# Altium schematic symbol library CT.SCHLIB: 13 symbols
Pins are listed as number, name and electrical type; pins without a type are passive.

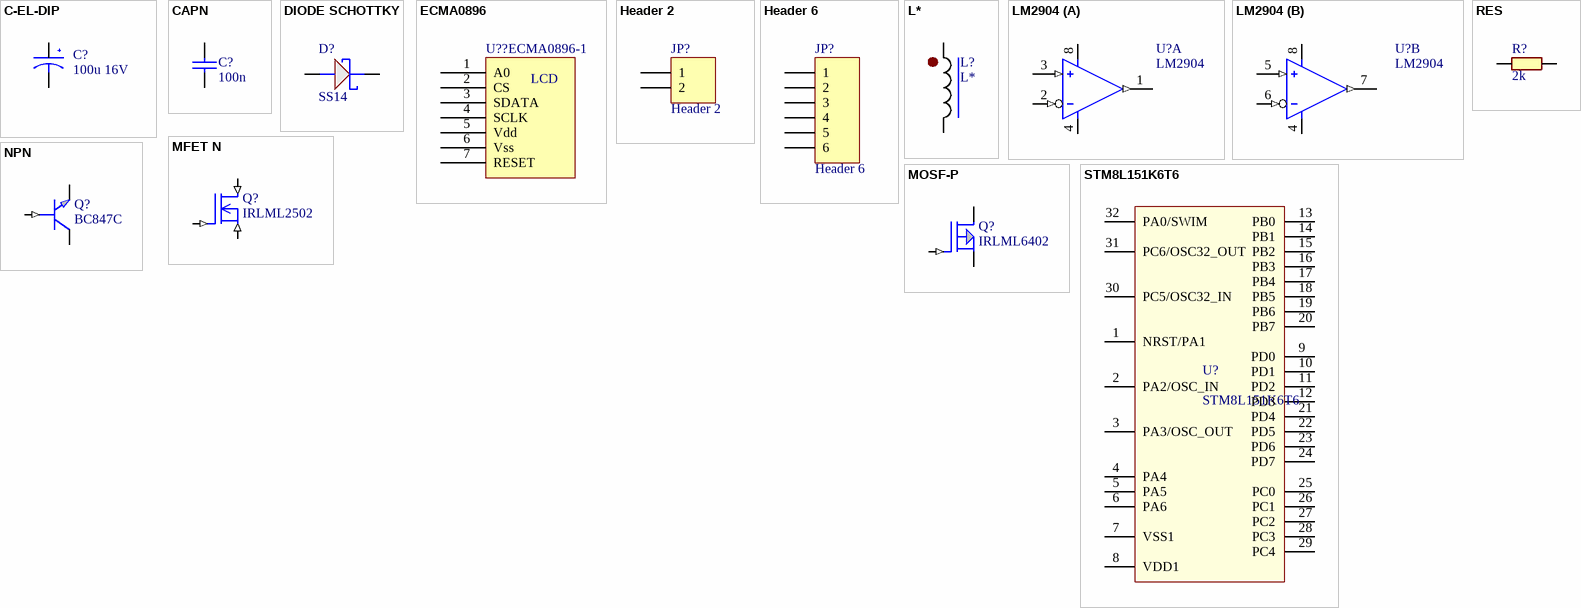
[diagram p0: symbols C-EL-DIP to STM8L151K6T6]

## C-EL-DIP
designator C?, comment 100u 16V
Производитель: *; Точность: *; Напряжение: *; Тип диэлектрика: *
footprint EXR-6.3X11
footprint EXR-10X12.5
footprint ECR-5X11
footprint ECR-6X11
footprint CAPPRD200W50D600H1250 (Capacitor, Polarized, Radial (Electrolytic); 2.00 mm C X 6.00 mm Dia X 12.50 mm H body)
pins: 1 -, 2 +

## CAPN
designator C?, comment 100n
footprint C-0603
footprint C-0805
footprint C-1206
footprint CAPC1608X08N (Chip Capacitor, 2-Leads, Body 1,60x0,80mm, IPC Medium Density)
pins: 1, 2

## DIODE SCHOTTKY
designator D?, comment SS14
Text Field1: 30; Text Field2: 20
footprint SOD-106A
footprint SOD-106B
footprint DIOM521X260X241L114X145N (Diode, Molded Body; 4.315 mm L X 2.605 mm W X 2.41 mm H body)
pins: A, K

## ECMA0896
designator U??, comment ECMA0896-1
footprint ECMA0896
pins: 1 A0, 2 CS, 3 SDATA, 4 SCLK, 5 Vdd, 6 Vss, 7 RESET
text: LCD

## Header 2
designator JP?
Header, 2-Pin; LatestRevisionDate: 17-Jul-2002; LatestRevisionNote: Re-released for DXP Platform.; Publisher: Altium Limited
footprint HDR1X2 (Connector; Header; 2 Position)
signal-integrity model Connector
footprint HDRV2W64P254_2X1_508X254H854 (Header, Vertical, 2.54 mm pitch; 0.64 mm lead width, 2 pins, 1 row, 2 pins per row, 5.08 mm L X 2.54 mm W X 8.54 mm H body)
pins: 1, 2

## Header 6
designator JP?
Header, 6-Pin; LatestRevisionDate: 17-Jul-2002; LatestRevisionNote: Re-released for DXP Platform.; Publisher: Altium Limited
footprint HDR1X6 (Connector; Header; 6 Position)
signal-integrity model Connector
footprint HDRV6W70P254_6X1_1397X254H754 (Header, Vertical, 2.54 mm pitch; 0.70 mm lead width, 6 pins, 1 row, 6 pins per row, 13.97 mm L X 2.54 mm W X 7.54 mm H body)
pins: 1, 2, 3, 4, 5, 6

## L*
designator L?
footprint SND-0705
footprint SND-1006
footprint T5026B-630K
pins: 1, 2

## LM2904
designator U?
2 Operation amplifier; Производитель: *; Допустимая замена: *; Цена: *; PDF файл: *; Температурный диапазон: *
footprint SO8-(SOT-96-1)
footprint SOIC127P600X175-8N (SOIC, 8-Leads, Body 4,90x3,90mm, Pitch 1,27mm, IPC Medium Density)
part A pins: 1 OUT (out), 2 -IN (in), 3 +IN (in), 4 V- (power), 8 V+ (power)
part B pins: 4 V-, 5 +IN (in), 6 -IN (in), 7 OUT (out), 8 V+

## MFET N
designator Q?, comment IRLML2502
footprint SOT95P245X110-3N (SOT23, 3-Leads, Body 2,90x2,45mm, Pitch 0,95mm, IPC Medium Density)
pins: 1 G (in), 2 D (in), 3 S (in)

## MOSF-P
designator Q?, comment IRLML6402
footprint SOT-23
footprint SOT-323
footprint SOT-428-(D-PAK)
footprint SOT-89
footprint SOT95P245X110-3N (SOT23, 3-Leads, Body 2,90x2,45mm, Pitch 0,95mm, IPC Medium Density)
pins: 1 GATE (in), 2 DRAIN, 3 SOURCE

## NPN
designator Q?, comment BC847C
footprint SOT-23
footprint SOT-323
footprint SOT-428-(D-PAK)
footprint SOT-89
footprint SOT95P245X110-3N (SOT23, 3-Leads, Body 2,90x2,45mm, Pitch 0,95mm, IPC Medium Density)
pins: 1 BASE (in), 2 COLLECTOR, 3 EMITTER

## RES
designator R?, comment 2k
footprint R-0603
footprint R-0805
footprint R-1206
footprint RESC1005X05N (Chip Resistor, 2-Leads, Body 1,05x0,54mm, IPC Medium Density)
footprint RESC1608X06N (Chip Resistor, 2-Leads, Body 1,60x0,82mm, IPC Medium Density)
footprint RESC2012X07N (Chip Resistor, 2-Leads, Body 2,00x1,25mm, IPC Medium Density)
footprint RESC3216X07N (Chip Resistor, 2-Leads, Body 3,20x1,60mm, IPC Medium Density)
footprint RESC3225X07N (Chip Resistor, 2-Leads, Body 3,20x2,49mm, IPC Medium Density)
pins: 1, 2

## STM8L151K6T6
designator U?
footprint TQFP80P900X900X160-32N (TQFP, 32-Leads, Body 7,00x7,00mm, Pitch 0,80mm, IPC Medium Density)
pins: 1 NRST/PA1, 2 PA2/OSC_IN, 3 PA3/OSC_OUT, 4 PA4, 5 PA5, 6 PA6, 7 VSS1, 8 VDD1, 9 PD0, 10 PD1, 11 PD2, 12 PD3, 13 PB0, 14 PB1, 15 PB2, 16 PB3, 17 PB4, 18 PB5, 19 PB6, 20 PB7, 21 PD4, 22 PD5, 23 PD6, 24 PD7, 25 PC0, 26 PC1, 27 PC2, 28 PC3, 29 PC4, 30 PC5/OSC32_IN, 31 PC6/OSC32_OUT, 32 PA0/SWIM